# Altium schematic symbol library SLW-107-01-G-D.Schlib: 1 symbol
Pins are listed as number, name and electrical type; pins without a type are passive.

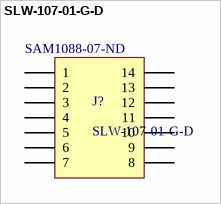
[diagram p0: symbol SLW-107-01-G-D]

## SLW-107-01-G-D
designator J?  Supplier Part Number 1: SAM1088-07-ND
14 pos 100 mil pitch low profile header; Supplier 1: Digi-Key
footprint SLW-107-01-X-D
pins: 1, 2 14, 3 2, 4 13, 5 3, 6 12, 7 4, 8 11, 9 5, 10, 11 6, 12 9, 13 7, 14 8